# Altium footprint library 发光二极管.PcbLib: 16 footprints
Each footprint in its own frame and in the unit in brackets; x right, y up, seen from the top. Pads: shape width x height; smd on the part's side, far side on the other; paste and mask are expansions set on the pad; w line width, h text height; cw(c..) or ccw(c..) is an arc to the next point about the centre after c.
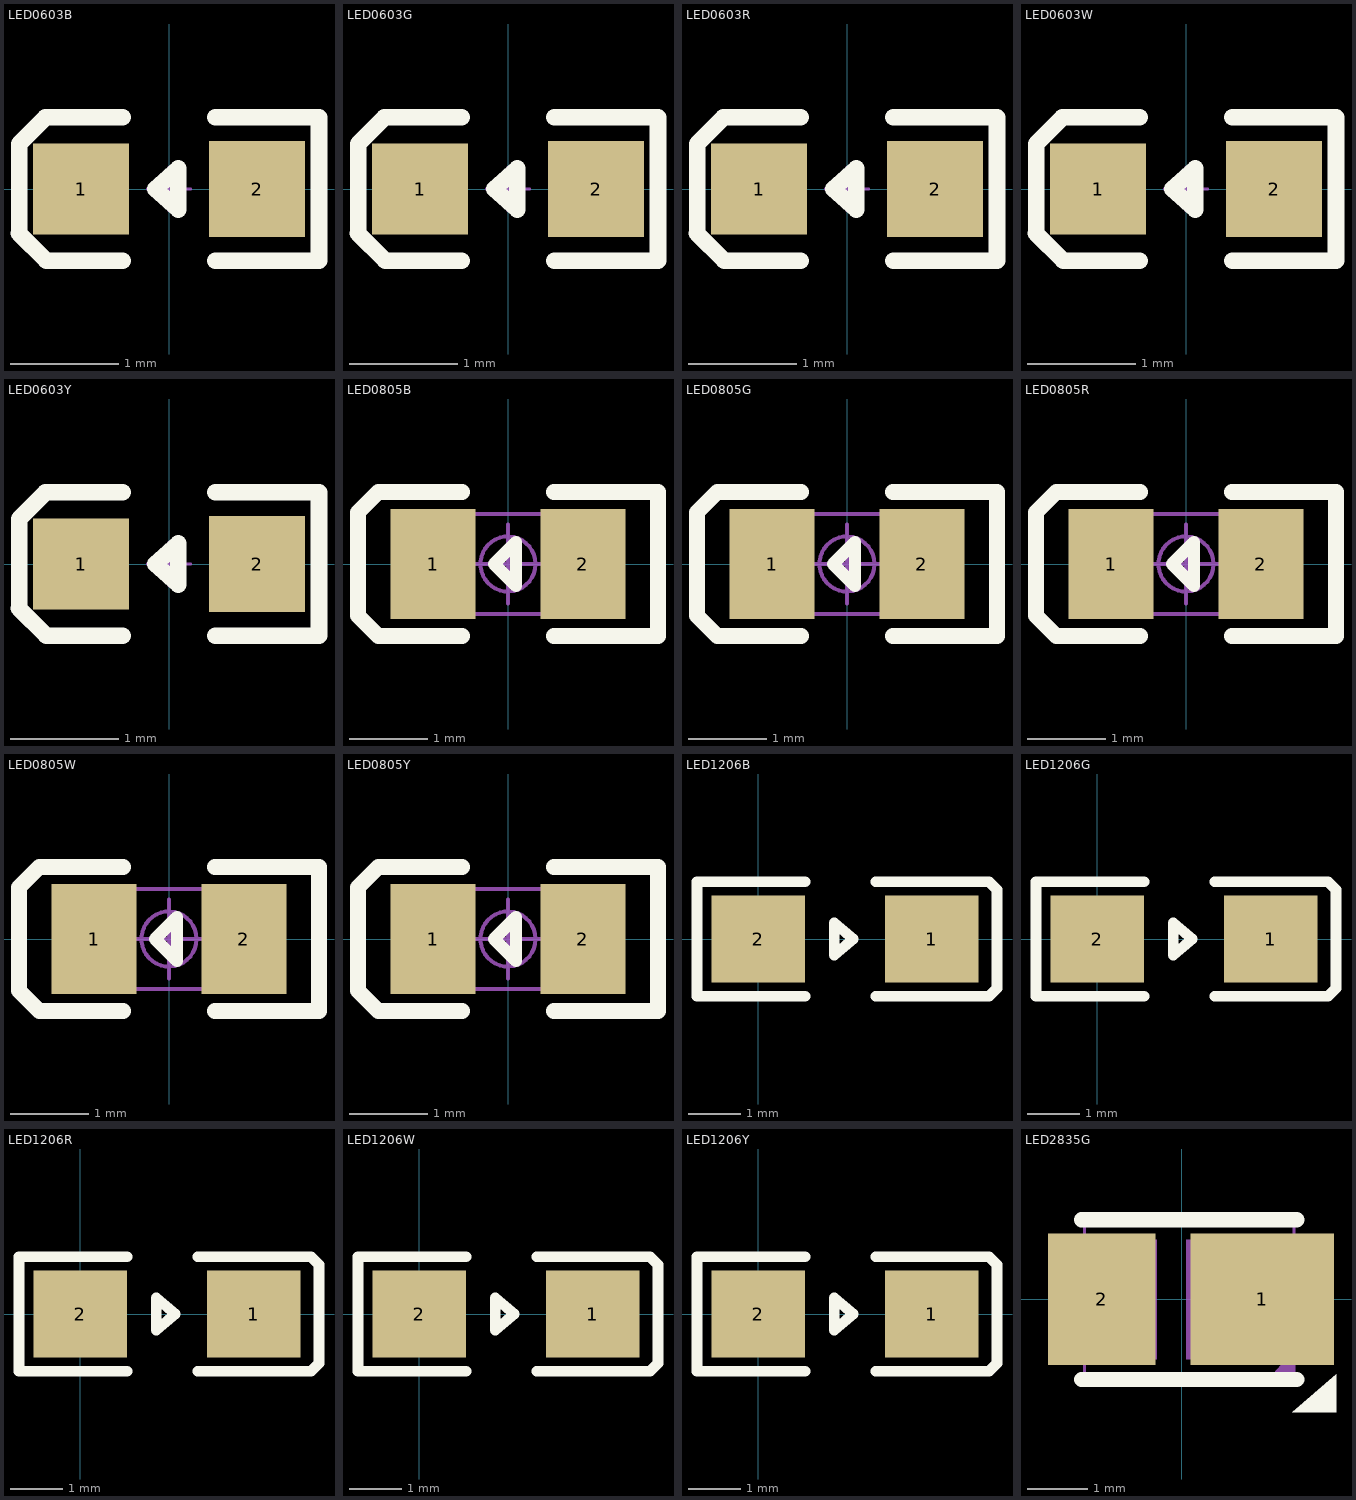
[diagram p0: the footprints below, top view; thin cyan lines are the x and y axes]

## LED0603B [mil]
pads (2):
  rect 35x33 smd: 1(-32,0)
  rect 35x35 smd: 2(32,0)
Top Overlay:
  lines w6: -54.55,-16.11 -44.96,-25.7 ; -16.78,-26.01 -44.65,-26.01 -54.53,-16.13 -54.53,16.41 ; -16.78,26.01 -44.94,26.01 ; 16.78,-26.01 54.53,-26.01 54.53,26.01 16.78,26.01 ; -54.53,16.41 -44.94,26.01 ; -54.53,16.41 -44.94,26.01 ; -5,0 3.39,7.5 3.39,-7.5 -5,0
Mechanical 15:
  circle w1: c0,0 r5
  lines w1: -7.87,0 7.87,0 ; 0,-7.87 0,7.87
3D body "18.STEP": height 23.82, standoff -0.04, extent -31.08,-15.79 31.91,15.79

## LED0603G [mil]
pads (2):
  rect 35x33 smd: 1(-32,0)
  rect 35x35 smd: 2(32,0)
Top Overlay:
  lines w6: -54.55,-16.11 -44.96,-25.7 ; -16.78,-26.01 -44.65,-26.01 -54.53,-16.13 -54.53,16.41 ; -16.78,26.01 -44.94,26.01 ; 16.78,-26.01 54.53,-26.01 54.53,26.01 16.78,26.01 ; -54.53,16.41 -44.94,26.01 ; -54.53,16.41 -44.94,26.01 ; -5,0 3.39,-7.5 3.39,7.5 -5,0
Mechanical 15:
  circle w1: c0,0 r5
  lines w1: -7.87,0 7.87,0 ; 0,-7.87 0,7.87
3D body "17.STEP": height 23.82, standoff -0.04, extent -31.5,-15.58 31.5,16

## LED0603R [mil]
pads (2):
  rect 35x33 smd: 1(-32,0)
  rect 35x35 smd: 2(32,0)
Top Overlay:
  lines w6: -54.55,-16.11 -44.96,-25.7 ; -16.78,-26.01 -44.65,-26.01 -54.53,-16.13 -54.53,16.41 ; -16.78,26.01 -44.94,26.01 ; 16.78,-26.01 54.53,-26.01 54.53,26.01 16.78,26.01 ; -54.53,16.41 -44.94,26.01 ; -54.53,16.41 -44.94,26.01 ; -5,0 3.39,-7.5 3.39,7.5 -5,0
Mechanical 15:
  circle w1: c0,0 r5
  lines w1: -7.87,0 7.87,0 ; 0,-7.87 0,7.87
3D body "16.STEP": height 23.82, standoff -0.04, extent -29.99,-15.79 33,15.79

## LED0603W [mil]
pads (2):
  rect 35x33 smd: 1(-32,0)
  rect 35x35 smd: 2(32,0)
Top Overlay:
  lines w6: -54.55,-16.11 -44.96,-25.7 ; -16.78,-26.01 -44.65,-26.01 -54.53,-16.13 -54.53,16.41 ; -16.78,26.01 -44.94,26.01 ; 16.78,-26.01 54.53,-26.01 54.53,26.01 16.78,26.01 ; -54.53,16.41 -44.94,26.01 ; -54.53,16.41 -44.94,26.01 ; -5,0 3.39,7.5 3.39,-7.5 -5,0
Mechanical 15:
  circle w1: c0,0 r5
  lines w1: -7.87,0 7.87,0 ; 0,-7.87 0,7.87
3D body "15.STEP": height 23.82, standoff -0.04, extent -31.5,-16.08 31.5,15.5

## LED0603Y [mil]
pads (2):
  rect 35x33 smd: 1(-32,0)
  rect 35x35 smd: 2(32,0)
Top Overlay:
  lines w6: -54.55,-16.11 -44.96,-25.7 ; -16.78,-26.01 -44.65,-26.01 -54.53,-16.13 -54.53,16.41 ; -16.78,26.01 -44.94,26.01 ; 16.78,-26.01 54.53,-26.01 54.53,26.01 16.78,26.01 ; -54.53,16.41 -44.94,26.01 ; -54.53,16.41 -44.94,26.01 ; -5,0 3.39,7.5 3.39,-7.5 -5,0
Mechanical 15:
  circle w1: c0,0 r5
  lines w1: -7.87,0 7.87,0 ; 0,-7.87 0,7.87
3D body "15.STEP": height 23.82, standoff -0.04, extent -31.5,-16.08 31.5,15.5

## LED0805B [mil]
pads (2):
  rect 42.5x55 smd paste-30: 1(-37.4,0) 2(37.4,0)
Top Overlay:
  lines w6: -75,25.86 -64.86,36 ; -7,0 4,11 4,-11 -7,0
  lines w8: -23,-36 -64.86,-36 ; -23,36 -64.86,36 -75,25.86 -75,-25.86 ; 23,-36 75,-36 75,36 23,36 ; -75,-25.86 -64.86,-36 ; -75,-25.86 -64.86,-36
Top Paste:
  region: 58.44,25 30,25 16.25,11.25 16.25,-11.25 30,-25 58.44,-25
  region: -58.44,25 -30,25 -16.25,11.25 -16.25,-11.25 -30,-25 -58.44,-25
Mechanical 15:
  circle w1.97: c0,0 r13.78
  circle w1.97: c0,0 r13.78
  region: -37.01,-25.1 -37.05,-24.15 -38.42,-22.85 -40.31,-22.85 -41.68,-24.16 -41.73,-25.1 -41.68,-26.05 -40.31,-27.35 -38.42,-27.35 -37.05,-26.05
  region: 39.37,-25.1 39.37,25.1 23.62,25.1 23.62,-25.1
  region: -39.37,-25.1 -39.37,25.1 -23.62,25.1 -23.62,-25.1
  lines w1.97: -19.68,0 19.68,0 -19.68,0 ; 0,-19.68 0,19.68 0,-19.68
  lines w2: -39.37,-25.1 39.37,-25.1 39.37,25.1 -39.37,25.1 -39.37,-25.1
3D body "13.STEP": height 31.69, standoff -0.04, extent -42.74,-24.64 36,24.64

## LED0805G [mil]
pads (2):
  rect 42.5x55 smd paste-30: 1(-37.4,0) 2(37.4,0)
Top Overlay:
  lines w6: -75,25.86 -64.86,36 ; -7,0 4,11 4,-11 -7,0
  lines w8: -23,-36 -64.86,-36 ; -23,36 -64.86,36 -75,25.86 -75,-25.86 ; 23,-36 75,-36 75,36 23,36 ; -75,-25.86 -64.86,-36 ; -75,-25.86 -64.86,-36
Top Paste:
  region: 58.44,25 30,25 16.25,11.25 16.25,-11.25 30,-25 58.44,-25
  region: -58.44,25 -30,25 -16.25,11.25 -16.25,-11.25 -30,-25 -58.44,-25
Mechanical 15:
  circle w1.97: c0,0 r13.78
  circle w1.97: c0,0 r13.78
  region: -37.01,-25.1 -37.05,-24.15 -38.42,-22.85 -40.31,-22.85 -41.68,-24.16 -41.73,-25.1 -41.68,-26.05 -40.31,-27.35 -38.42,-27.35 -37.05,-26.05
  region: 39.37,-25.1 39.37,25.1 23.62,25.1 23.62,-25.1
  region: -39.37,-25.1 -39.37,25.1 -23.62,25.1 -23.62,-25.1
  lines w1.97: -19.68,0 19.68,0 -19.68,0 ; 0,-19.68 0,19.68 0,-19.68
  lines w2: -39.37,-25.1 39.37,-25.1 39.37,25.1 -39.37,25.1 -39.37,-25.1
3D body "12.STEP": height 31.69, standoff -0.04, extent -39.37,-25 39.37,24.29

## LED0805R [mil]
pads (2):
  rect 42.5x55 smd paste-30: 1(-37.4,0) 2(37.4,0)
Top Overlay:
  lines w6: -75,25.86 -64.86,36 ; -7,0 4,-11 4,11 -7,0
  lines w8: -23,-36 -64.86,-36 ; -23,36 -64.86,36 -75,25.86 -75,-25.86 ; 23,-36 75,-36 75,36 23,36 ; -75,-25.86 -64.86,-36 ; -75,-25.86 -64.86,-36
Top Paste:
  region: -58.44,25 -30,25 -16.25,11.25 -16.25,-11.25 -30,-25 -58.44,-25
  region: 58.44,25 30,25 16.25,11.25 16.25,-11.25 30,-25 58.44,-25
Mechanical 15:
  circle w1.97: c0,0 r13.78
  circle w1.97: c0,0 r13.78
  region: -39.37,-25.1 -39.37,25.1 -23.62,25.1 -23.62,-25.1
  region: 39.37,-25.1 39.37,25.1 23.62,25.1 23.62,-25.1
  region: -37.01,-25.1 -37.05,-24.15 -38.42,-22.85 -40.31,-22.85 -41.68,-24.16 -41.73,-25.1 -41.68,-26.05 -40.31,-27.35 -38.42,-27.35 -37.05,-26.05
  lines w1.97: -19.68,0 19.68,0 -19.68,0 ; 0,-19.68 0,19.68 0,-19.68
  lines w2: -39.37,-25.1 -39.37,25.1 39.37,25.1 39.37,-25.1 -39.37,-25.1
3D body "11.STEP": height 31.69, standoff -0.04, extent -37.37,-25 41.37,24.29

## LED0805W [mil]
pads (2):
  rect 42.5x55 smd paste-30: 1(-37.4,0) 2(37.4,0)
Top Overlay:
  lines w6: -75,25.86 -64.86,36 ; -7,0 4,11 4,-11 -7,0
  lines w8: -23,-36 -64.86,-36 ; -23,36 -64.86,36 -75,25.86 -75,-25.86 ; 23,-36 75,-36 75,36 23,36 ; -75,-25.86 -64.86,-36 ; -75,-25.86 -64.86,-36
Top Paste:
  region: 58.44,25 30,25 16.25,11.25 16.25,-11.25 30,-25 58.44,-25
  region: -58.44,25 -30,25 -16.25,11.25 -16.25,-11.25 -30,-25 -58.44,-25
Mechanical 15:
  circle w1.97: c0,0 r13.78
  circle w1.97: c0,0 r13.78
  region: -37.01,-25.1 -37.05,-24.15 -38.42,-22.85 -40.31,-22.85 -41.68,-24.16 -41.73,-25.1 -41.68,-26.05 -40.31,-27.35 -38.42,-27.35 -37.05,-26.05
  region: 39.37,-25.1 39.37,25.1 23.62,25.1 23.62,-25.1
  region: -39.37,-25.1 -39.37,25.1 -23.62,25.1 -23.62,-25.1
  lines w1.97: -19.68,0 19.68,0 -19.68,0 ; 0,-19.68 0,19.68 0,-19.68
  lines w2: -39.37,-25.1 39.37,-25.1 39.37,25.1 -39.37,25.1 -39.37,-25.1
3D body "10.STEP": height 31.69, standoff -0.04, extent -37.38,-24.65 41.36,24.64

## LED0805Y [mil]
pads (2):
  rect 42.5x55 smd paste-30: 1(-37.4,0) 2(37.4,0)
Top Overlay:
  lines w6: -75,25.86 -64.86,36 ; -7,0 4,11 4,-11 -7,0
  lines w8: -23,-36 -64.86,-36 ; -23,36 -64.86,36 -75,25.86 -75,-25.86 ; 23,-36 75,-36 75,36 23,36 ; -75,-25.86 -64.86,-36 ; -75,-25.86 -64.86,-36
Top Paste:
  region: 58.44,25 30,25 16.25,11.25 16.25,-11.25 30,-25 58.44,-25
  region: -58.44,25 -30,25 -16.25,11.25 -16.25,-11.25 -30,-25 -58.44,-25
Mechanical 15:
  circle w1.97: c0,0 r13.78
  circle w1.97: c0,0 r13.78
  region: -37.01,-25.1 -37.05,-24.15 -38.42,-22.85 -40.31,-22.85 -41.68,-24.16 -41.73,-25.1 -41.68,-26.05 -40.31,-27.35 -38.42,-27.35 -37.05,-26.05
  region: 39.37,-25.1 39.37,25.1 23.62,25.1 23.62,-25.1
  region: -39.37,-25.1 -39.37,25.1 -23.62,25.1 -23.62,-25.1
  lines w1.97: -19.68,0 19.68,0 -19.68,0 ; 0,-19.68 0,19.68 0,-19.68
  lines w2: -39.37,-25.1 39.37,-25.1 39.37,25.1 -39.37,25.1 -39.37,-25.1
3D body "m.STEP": height 31.69, standoff -0.04, extent -38.37,-24.17 40.37,25.12

## LED1206B [mil]
pads (2):
  rect 70x65 smd: 1(130,0) 2(0,0)
Top Overlay:
  lines w8: 35,-43 -46,-43 -46,43 -44,43 35,43 ; 88,-43 172.99,-43 179,-36.99 179,36.99 172.99,43 88,43 ; 57,-12 57,12 71.18,0 57,-12
3D body "8.STEP": height 39.57, standoff -0.04, extent -3.03,-30 123.03,33.07

## LED1206G [mil]
pads (2):
  rect 70x65 smd: 1(130,0) 2(0,0)
Top Overlay:
  lines w8: 35,-43 -46,-43 -46,43 -44,43 35,43 ; 88,-43 172.99,-43 179,-36.99 179,36.99 172.99,43 88,43 ; 57,-12 57,12 71.18,0 57,-12
3D body "7.STEP": height 39.57, standoff -0.04, extent 6.97,-30 133.03,33.07

## LED1206R [mil]
pads (2):
  rect 70x65 smd: 1(130,0) 2(0,0)
Top Overlay:
  lines w8: 35,-43 -46,-43 -46,43 -44,43 35,43 ; 88,-43 172.99,-43 179,-36.99 179,36.99 172.99,43 88,43 ; 57,-12 57,12 71.18,0 57,-12
3D body "6.STEP": height 39.57, standoff -0.04, extent 1.97,-31.53 128.04,31.54

## LED1206W [mil]
pads (2):
  rect 70x65 smd: 1(130,0) 2(0,0)
Top Overlay:
  lines w8: 35,-43 -46,-43 -46,43 -44,43 35,43 ; 88,-43 172.99,-43 179,-36.99 179,36.99 172.99,43 88,43 ; 57,-12 57,12 71.18,0 57,-12
3D body "5.STEP": height 39.57, standoff -0.04, extent 0,-30 126.06,33.07

## LED1206Y [mil]
pads (2):
  rect 70x65 smd: 1(130,0) 2(0,0)
Top Overlay:
  lines w8: 35,-43 -46,-43 -46,43 -44,43 35,43 ; 88,-43 172.99,-43 179,-36.99 179,36.99 172.99,43 88,43 ; 57,-12 71.18,0 57,12 57,-12
3D body "4.STEP": height 39.57, standoff -0.04, extent -3.03,-33.07 123.03,30

## LED2835G [mm]
pads (2):
  rect 2.4x2.2 smd paste+0 mask+0.05: 1(1.34,0)
  rect 1.8x2.2 smd paste+0 mask+0.05: 2(-1.34,0)
Top Overlay:
  region: 2.575,-1.25 2.575,-1.89 1.845,-1.89
  lines w0.254: -1.68,-1.34 1.92,-1.34 ; -1.68,1.33 1.92,1.33
Mechanical 6:
  region: 1.87,-0.86 1.87,-1.4 1.38,-1.4
  region: -0.55,-0.09 -2.17,-0.09 -2.17,0.08 -0.55,0.08
  region: -1.27,0.762 -1.27,-0.858 -1.44,-0.858 -1.44,0.762
  region: 2.11,-0.09 0.49,-0.09 0.49,0.08 2.11,0.08
Mechanical 15:
  region: 1.87,1 1.87,-1 0.07,-1 0.07,1
  region: -0.418,-1 -1.618,-1 -1.618,1 -0.418,1
  region: -1.57,-1.4 -1.571,-1.376 -1.606,-1.342 -1.654,-1.342 -1.689,-1.376 -1.69,-1.4 -1.689,-1.424 -1.655,-1.458 -1.606,-1.458 -1.571,-1.424 -1.57,-1.4
  lines w0.051: -1.63,-1.4 -1.63,1.4 1.87,1.4 1.87,-1.4 -1.63,-1.4
3D body "LED3.step": height 0.8, standoff 0, extent -1.611,-1.4 1.889,1.403